# EAGLE library part LIS3DH (library st)
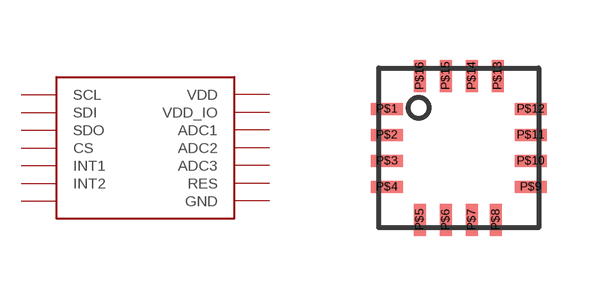
[diagram p2: symbol with the pads of LGA16; footprint LGA16]

Designator prefix -

## LIS3DH  [LGA16]
P$1  VDD_IO  pwr
P$2  NC1  nc
P$3  NC2  nc
P$4  SCL
P$5  GND  pwr
P$6  SDI
P$7  SDO
P$8  CS
P$9  INT2
P$10  RES
P$11  INT1
P$12  GND_2  pwr
P$13  ADC3
P$14  VDD  pwr
P$15  ADC2
P$16  ADC1

## Footprint LGA16 (pad centres in mm)
smd 0.8 x 0.3: P$1 -1.8,0.975; P$2 -1.8,0.325; P$3 -1.8,-0.325; P$4 -1.8,-0.975; P$9 1.8,-0.975; P$10 1.8,-0.325; P$11 1.8,0.325; P$12 1.8,0.975
smd 0.3 x 0.8: P$5 -0.975,-1.8; P$6 -0.325,-1.8; P$7 0.325,-1.8; P$8 0.927,-1.8; P$13 0.975,1.8; P$14 0.325,1.8; P$15 -0.325,1.8; P$16 -0.975,1.8